# EAGLE library part J1 (library DSDEagleLibrary)
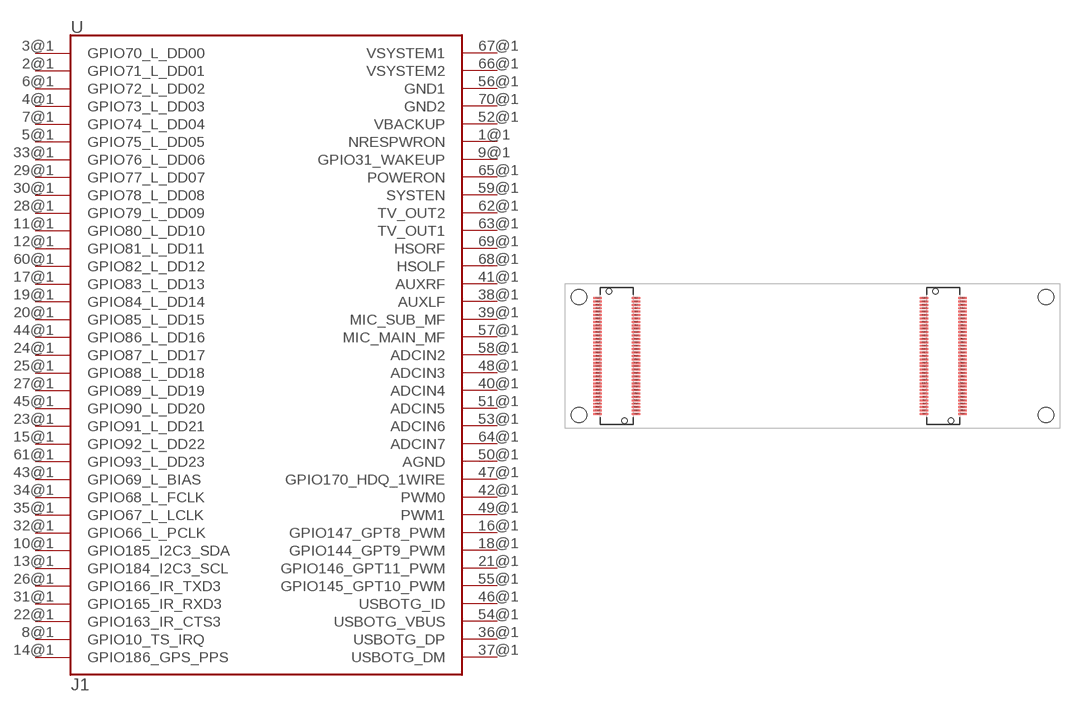
[diagram p51: symbol with the pads of OVERO; footprint OVERO]

Designator prefix -

## J1J1  [OVERO]
1@1  NRESPWRON
2@1  GPIO71_L_DD01
3@1  GPIO70_L_DD00
4@1  GPIO73_L_DD03
5@1  GPIO75_L_DD05
6@1  GPIO72_L_DD02
7@1  GPIO74_L_DD04
8@1  GPIO10_TS_IRQ
9@1  GPIO31_WAKEUP
10@1  GPIO185_I2C3_SDA
11@1  GPIO80_L_DD10
12@1  GPIO81_L_DD11
13@1  GPIO184_I2C3_SCL
14@1  GPIO186_GPS_PPS
15@1  GPIO92_L_DD22
16@1  GPIO147_GPT8_PWM
17@1  GPIO83_L_DD13
18@1  GPIO144_GPT9_PWM
19@1  GPIO84_L_DD14
20@1  GPIO85_L_DD15
21@1  GPIO146_GPT11_PWM
22@1  GPIO163_IR_CTS3
23@1  GPIO91_L_DD21
24@1  GPIO87_L_DD17
25@1  GPIO88_L_DD18
26@1  GPIO166_IR_TXD3
27@1  GPIO89_L_DD19
28@1  GPIO79_L_DD09
29@1  GPIO77_L_DD07
30@1  GPIO78_L_DD08
31@1  GPIO165_IR_RXD3
32@1  GPIO66_L_PCLK
33@1  GPIO76_L_DD06
34@1  GPIO68_L_FCLK
35@1  GPIO67_L_LCLK
36@1  USBOTG_DP
37@1  USBOTG_DM
38@1  AUXLF
39@1  MIC_SUB_MF
40@1  ADCIN4
41@1  AUXRF
42@1  PWM0
43@1  GPIO69_L_BIAS
44@1  GPIO86_L_DD16
45@1  GPIO90_L_DD20
46@1  USBOTG_ID
47@1  GPIO170_HDQ_1WIRE
48@1  ADCIN3
49@1  PWM1
50@1  AGND
51@1  ADCIN5
52@1  VBACKUP
53@1  ADCIN6
54@1  USBOTG_VBUS
55@1  GPIO145_GPT10_PWM
56@1  GND1
57@1  MIC_MAIN_MF
58@1  ADCIN2
59@1  SYSTEN
60@1  GPIO82_L_DD12
61@1  GPIO93_L_DD23
62@1  TV_OUT2
63@1  TV_OUT1
64@1  ADCIN7
65@1  POWERON
66@1  VSYSTEM2
67@1  VSYSTEM1
68@1  HSOLF
69@1  HSORF
70@1  GND2

## Footprint OVERO (pad centres in mm)
smd 1 x 0.23: 1@1 16.9,-6.8; 1@2 -16.9,6.8; 2@1 16.9,-6.4; 2@2 -16.9,6.4; 3@1 16.9,-6; 3@2 -16.9,6; 4@1 16.9,-5.6; 4@2 -16.9,5.6; 5@1 16.9,-5.2; 5@2 -16.9,5.2; 6@1 16.9,-4.8; 6@2 -16.9,4.8; 7@1 16.9,-4.4; 7@2 -16.9,4.4; 8@1 16.9,-4; 8@2 -16.9,4; 9@1 16.9,-3.6; 9@2 -16.9,3.6; 10@1 16.9,-3.2; 10@2 -16.9,3.2; 11@1 16.9,-2.8; 11@2 -16.9,2.8; 12@1 16.9,-2.4; 12@2 -16.9,2.4; 13@1 16.9,-2; 13@2 -16.9,2; 14@1 16.9,-1.6; 14@2 -16.9,1.6; 15@1 16.9,-1.2; 15@2 -16.9,1.2; 16@1 16.9,-0.8; 16@2 -16.9,0.8; 17@1 16.9,-0.4; 17@2 -16.9,0.4; 18@1 16.9,0; 18@2 -16.9,0; 19@1 16.9,0.4; 19@2 -16.9,-0.4; 20@1 16.9,0.8; 20@2 -16.9,-0.8; 21@1 16.9,1.2; 21@2 -16.9,-1.2; 22@1 16.9,1.6; 22@2 -16.9,-1.6; 23@1 16.9,2; 23@2 -16.9,-2; 24@1 16.9,2.4; 24@2 -16.9,-2.4; 25@1 16.9,2.8; 25@2 -16.9,-2.8; 26@1 16.9,3.2; 26@2 -16.9,-3.2; 27@1 16.9,3.6; 27@2 -16.9,-3.6; 28@1 16.9,4; 28@2 -16.9,-4; 29@1 16.9,4.4; 29@2 -16.9,-4.4; 30@1 16.9,4.8; 30@2 -16.9,-4.8; 31@1 16.9,5.2; 31@2 -16.9,-5.2; 32@1 16.9,5.6; 32@2 -16.9,-5.6; 33@1 16.9,6; 33@2 -16.9,-6; 34@1 16.9,6.4; 34@2 -16.9,-6.4; 35@1 16.9,6.8; 35@2 -16.9,-6.8; 36@1 21.4,6.8; 36@2 -21.4,-6.8; 37@1 21.4,6.4; 37@2 -21.4,-6.4; 38@1 21.4,6; 38@2 -21.4,-6; 39@1 21.4,5.6; 39@2 -21.4,-5.6; 40@1 21.4,5.2; 40@2 -21.4,-5.2; 41@1 21.4,4.8; 41@2 -21.4,-4.8; 42@1 21.4,4.4; 42@2 -21.4,-4.4; 43@1 21.4,4; 43@2 -21.4,-4; 44@1 21.4,3.6; 44@2 -21.4,-3.6; 45@1 21.4,3.2; 45@2 -21.4,-3.2; 46@1 21.4,2.8; 46@2 -21.4,-2.8; 47@1 21.4,2.4; 47@2 -21.4,-2.4; 48@1 21.4,2; 48@2 -21.4,-2; 49@1 21.4,1.6; 49@2 -21.4,-1.6; 50@1 21.4,1.2; 50@2 -21.4,-1.2; 51@1 21.4,0.8; 51@2 -21.4,-0.8; 52@1 21.4,0.4; 52@2 -21.4,-0.4; 53@1 21.4,0; 53@2 -21.4,0; 54@1 21.4,-0.4; 54@2 -21.4,0.4; 55@1 21.4,-0.8; 55@2 -21.4,0.8; 56@1 21.4,-1.2; 56@2 -21.4,1.2; 57@1 21.4,-1.6; 57@2 -21.4,1.6; 58@1 21.4,-2; 58@2 -21.4,2; 59@1 21.4,-2.4; 59@2 -21.4,2.4; 60@1 21.4,-2.8; 60@2 -21.4,2.8; 61@1 21.4,-3.2; 61@2 -21.4,3.2; 62@1 21.4,-3.6; 62@2 -21.4,3.6; 63@1 21.4,-4; 63@2 -21.4,4; 64@1 21.4,-4.4; 64@2 -21.4,4.4; 65@1 21.4,-4.8; 65@2 -21.4,4.8; 66@1 21.4,-5.2; 66@2 -21.4,5.2; 67@1 21.4,-5.6; 67@2 -21.4,5.6; 68@1 21.4,-6; 68@2 -21.4,6; 69@1 21.4,-6.4; 69@2 -21.4,6.4; 70@1 21.4,-6.8; 70@2 -21.4,6.8
hole 1.778 at -23.597,-6.909
hole 1.778 at -23.597,6.909
hole 1.778 at 31.191,6.909
hole 1.778 at 31.191,-6.909
hole 0.65 at -20.05,7.6
hole 0.65 at -18.25,-7.6
hole 0.65 at 18.25,7.6
hole 0.65 at 20.05,-7.6